# Altium footprint library footprints.PcbLib: 14 footprints (part 1 of 2)
Each footprint in its own frame and in the unit in brackets; x right, y up, seen from the top. Pads: shape width x height; smd on the part's side, far side on the other; paste and mask are expansions set on the pad; w line width, h text height; cw(c..) or ccw(c..) is an arc to the next point about the centre after c.
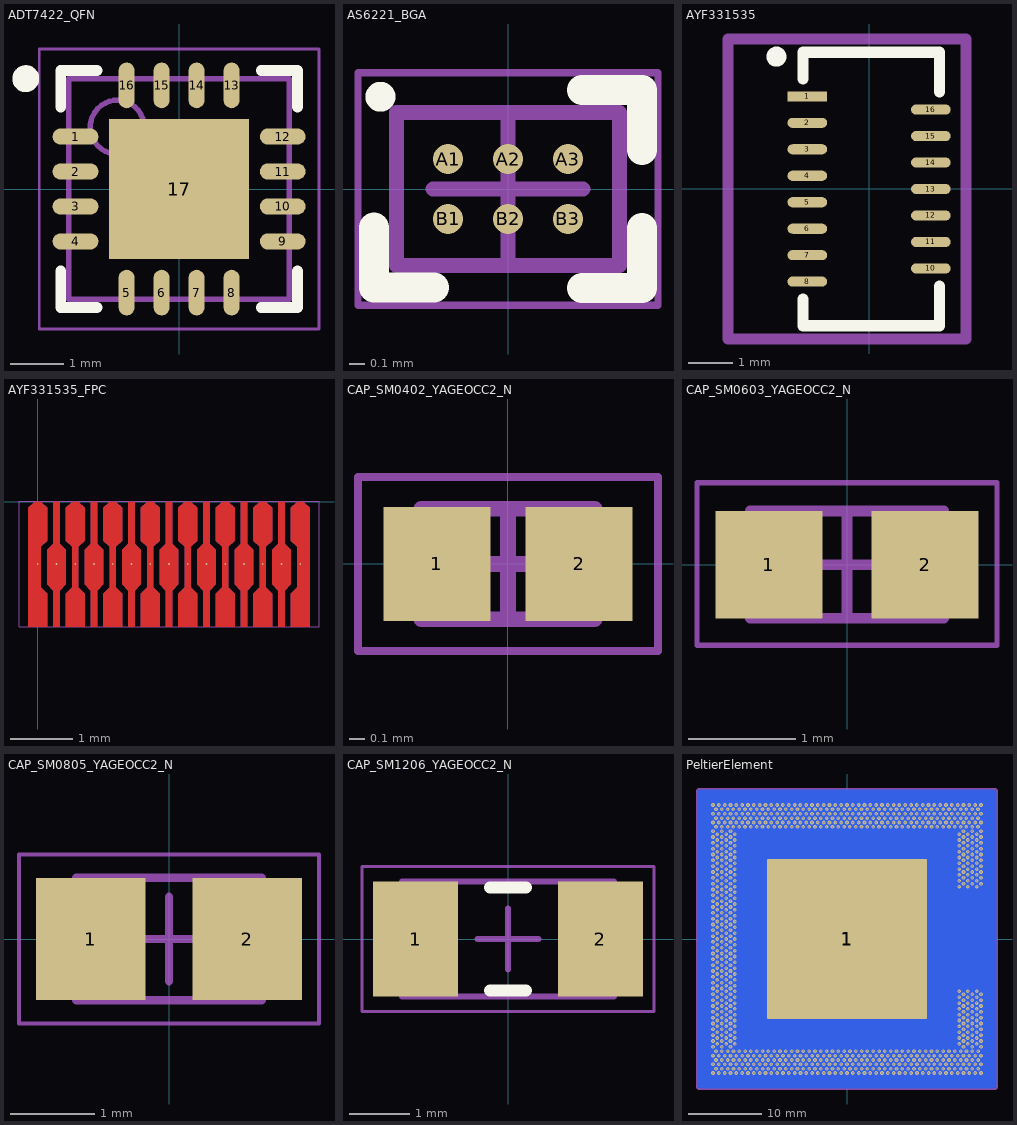
[diagram p0: the footprints below, top view; thin cyan lines are the x and y axes]

## ADT7422_QFN [mm] "QFN, 16-Leads, Body 4,00x4,00mm, Pitch 0,65mm, Thermal Pad 2,60x2,60mm, IPC Medium Density"
height 0.8
pads (17):
  oval 0.85x0.3 smd: 1(-1.925,0.975) 2(-1.925,0.325) 3(-1.925,-0.325) 4(-1.925,-0.975) 9(1.925,-0.975) 10(1.925,-0.325) 11(1.925,0.325) 12(1.925,0.975)
  oval 0.3x0.85 smd: 5(-0.975,-1.925) 6(-0.325,-1.925) 7(0.325,-1.925) 8(0.975,-1.925) 13(0.975,1.925) 14(0.325,1.925) 15(-0.325,1.925) 16(-0.975,1.925)
  rect 2.6x2.6 smd: 17(0,0)
Top Overlay:
  circle w0.25: c-2.85,2.05 r0.125
  lines w0.2: -2.2,-1.525 -2.2,-2.2 -1.525,-2.2 ; -2.2,1.525 -2.2,2.2 -1.525,2.2 ; 1.525,-2.2 2.2,-2.2 2.2,-1.525 ; 1.525,2.2 2.2,2.2 2.2,1.525
Top Courtyard:
  lines w0.05: -2.6,-2.6 -2.6,2.6 2.6,2.6 2.6,-2.6 -2.6,-2.6
  lines w0.1: -0.5,0 0.5,0 ; 0,-0.5 0,0.5
Mechanical 13:
  circle w0.1: c-1.15,1.15 r0.5
  lines w0.1: -2.05,-2.05 -2.05,2.05 2.05,2.05 2.05,-2.05 -2.05,-2.05
3D body: height 0.8, standoff 0.01, extent -2.05,-2.05 2.05,2.05

## AS6221_BGA [mm] "BGA, 6-Leads, Body 1,02x1,50mmx0,53mm, Pitch 0,40mm"
height 0.53
pads (6):
  round 0.2 smd: A1(-0.4,0.2) A2(0,0.2) A3(0.4,0.2) B1(-0.4,-0.2) B2(0,-0.2) B3(0.4,-0.2)
Top Overlay:
  circle w0.1: c-0.85,0.615 r0.05
  lines w0.2: -0.893,-0.256 -0.893,-0.656 -0.493,-0.656 ; 0.494,-0.66 0.894,-0.66 0.894,-0.26 ; 0.494,0.661 0.894,0.661 0.894,0.261
Top Courtyard:
  lines w0.05: -1,-0.775 -1,0.775 1,0.775 1,-0.775 -1,-0.775
  lines w0.1: -0.5,0 0.5,0 ; 0,-0.5 0,0.5
Mechanical 13:
  lines w0.1: -0.745,-0.51 -0.745,0.51 0.745,0.51 0.745,-0.51 -0.745,-0.51
3D body: height 0.55, standoff 0.18, extent -0.745,-0.51 0.745,0.51

## AYF331535 [mm]
pads (15):
  rect 0.9x0.23 smd: 1(-1.4,2.1)
  oval 0.9x0.23 smd: 2(-1.4,1.5) 3(-1.4,0.9) 4(-1.4,0.3) 5(-1.4,-0.3) 6(-1.4,-0.9) 7(-1.4,-1.5) 8(-1.4,-2.1) 10(1.4,-1.8) 11(1.4,-1.2) 12(1.4,-0.6) 13(1.4,0) 14(1.4,0.6) 15(1.4,1.2) 16(1.4,1.8)
Top Overlay:
  circle w0.254: c-2.1,3 r0.1
  lines w0.254: -1.5,-2.5 -1.5,-3.1 1.6,-3.1 1.6,-2.2 ; -1.5,2.5 -1.5,3.1 1.6,3.1 1.6,2.2
Top Courtyard:
  lines w0.254: -3.2,-3.4 2.2,-3.4 2.2,3.4 -3.2,3.4 -3.2,-3.4
3D body: height 0.9, standoff 0, extent -1.4,-3 1.55,3

## AYF331535_FPC [mil]
pads (15):
  round 1 all layers, no hole paste-99999 mask+3.94: 1(0,-39.37) 2(11.81,-39.37)
  round 1 all layers, no hole paste-99999: 3(23.62,-39.37) 4(35.43,-39.37) 5(47.24,-39.37) 6(59.06,-39.37) 7(70.87,-39.37) 8(82.68,-39.37) 9(94.49,-39.37) 10(106.3,-39.37) 11(118.11,-39.37) 12(129.92,-39.37) 13(141.73,-39.37) 14(153.54,-39.37) 15(165.35,-39.37)
Top Layer:
  region: -5.91,-78.74 -5.91,-3.94 -1.97,0 1.97,0 5.91,-3.94 5.91,-24.61 1.97,-28.54 1.97,-54.13 5.91,-58.07 5.91,-78.74
  region: 5.91,-52.17 5.91,-30.51 9.84,-26.57 9.84,0 13.78,0 13.78,-26.57 17.72,-30.51 17.72,-52.17 13.78,-56.1 13.78,-78.74 9.84,-78.74 9.84,-56.1
  region: 17.72,-78.74 17.72,-58.07 21.65,-54.13 21.65,-28.54 17.72,-24.61 17.72,-3.94 21.65,0 25.59,0 29.53,-3.94 29.53,-24.61 25.59,-28.54 25.59,-54.13 29.53,-58.07 29.53,-78.74
  region: 29.53,-52.17 29.53,-30.51 33.46,-26.57 33.46,0 37.4,0 37.4,-26.57 41.34,-30.51 41.34,-52.17 37.4,-56.1 37.4,-78.74 33.46,-78.74 33.46,-56.1
  region: 41.34,-78.74 41.34,-58.07 45.28,-54.13 45.28,-28.54 41.34,-24.61 41.34,-3.94 45.28,0 49.21,0 53.15,-3.94 53.15,-24.61 49.21,-28.54 49.21,-54.13 53.15,-58.07 53.15,-78.74
  region: 64.96,-78.74 64.96,-58.07 68.9,-54.13 68.9,-28.54 64.96,-24.61 64.96,-3.94 68.9,0 72.83,0 76.77,-3.94 76.77,-24.61 72.83,-28.54 72.83,-54.13 76.77,-58.07 76.77,-78.74
  region: 53.15,-52.17 53.15,-30.51 57.09,-26.57 57.09,0 61.02,0 61.02,-26.57 64.96,-30.51 64.96,-52.17 61.02,-56.1 61.02,-78.74 57.09,-78.74 57.09,-56.1
  region: 76.77,-52.17 76.77,-30.51 80.71,-26.57 80.71,0 84.65,0 84.65,-26.57 88.58,-30.51 88.58,-52.17 84.65,-56.1 84.65,-78.74 80.71,-78.74 80.71,-56.1
  region: 88.58,-78.74 88.58,-58.07 92.52,-54.13 92.52,-28.54 88.58,-24.61 88.58,-3.94 92.52,0 96.46,0 100.39,-3.94 100.39,-24.61 96.46,-28.54 96.46,-54.13 100.39,-58.07 100.39,-78.74
  region: 100.39,-52.17 100.39,-30.51 104.33,-26.57 104.33,0 108.27,0 108.27,-26.57 112.2,-30.51 112.2,-52.17 108.27,-56.1 108.27,-78.74 104.33,-78.74 104.33,-56.1
  region: 112.2,-78.74 112.2,-58.07 116.14,-54.13 116.14,-28.54 112.2,-24.61 112.2,-3.94 116.14,0 120.08,0 124.02,-3.94 124.02,-24.61 120.08,-28.54 120.08,-54.13 124.02,-58.07 124.02,-78.74
  region: 124.02,-52.17 124.02,-30.51 127.95,-26.57 127.95,0 131.89,0 131.89,-26.57 135.83,-30.51 135.83,-52.17 131.89,-56.1 131.89,-78.74 127.95,-78.74 127.95,-56.1
  region: 135.83,-78.74 135.83,-58.07 139.76,-54.13 139.76,-28.54 135.83,-24.61 135.83,-3.94 139.76,0 143.7,0 147.64,-3.94 147.64,-24.61 143.7,-28.54 143.7,-54.13 147.64,-58.07 147.64,-78.74
  region: 147.64,-52.17 147.64,-30.51 151.57,-26.57 151.57,0 155.51,0 155.51,-26.57 159.45,-30.51 159.45,-52.17 155.51,-56.1 155.51,-78.74 151.57,-78.74 151.57,-56.1
  region: 159.45,-78.74 159.45,-58.07 163.39,-54.13 163.39,-28.54 159.45,-24.61 159.45,-3.94 163.39,0 167.32,0 171.26,-3.94 171.26,-78.74
Bottom Layer:
  region: -5.91,-78.74 -5.91,-3.94 -1.97,0 1.97,0 5.91,-3.94 5.91,-24.61 1.97,-28.54 1.97,-54.13 5.91,-58.07 5.91,-78.74
  region: 5.91,-52.17 5.91,-30.51 9.84,-26.57 9.84,0 13.78,0 13.78,-26.57 17.72,-30.51 17.72,-52.17 13.78,-56.1 13.78,-78.74 9.84,-78.74 9.84,-56.1
  region: 17.72,-78.74 17.72,-58.07 21.65,-54.13 21.65,-28.54 17.72,-24.61 17.72,-3.94 21.65,0 25.59,0 29.53,-3.94 29.53,-24.61 25.59,-28.54 25.59,-54.13 29.53,-58.07 29.53,-78.74
  region: 29.53,-52.17 29.53,-30.51 33.46,-26.57 33.46,0 37.4,0 37.4,-26.57 41.34,-30.51 41.34,-52.17 37.4,-56.1 37.4,-78.74 33.46,-78.74 33.46,-56.1
  region: 41.34,-78.74 41.34,-58.07 45.28,-54.13 45.28,-28.54 41.34,-24.61 41.34,-3.94 45.28,0 49.21,0 53.15,-3.94 53.15,-24.61 49.21,-28.54 49.21,-54.13 53.15,-58.07 53.15,-78.74
  region: 64.96,-78.74 64.96,-58.07 68.9,-54.13 68.9,-28.54 64.96,-24.61 64.96,-3.94 68.9,0 72.83,0 76.77,-3.94 76.77,-24.61 72.83,-28.54 72.83,-54.13 76.77,-58.07 76.77,-78.74
  region: 53.15,-52.17 53.15,-30.51 57.09,-26.57 57.09,0 61.02,0 61.02,-26.57 64.96,-30.51 64.96,-52.17 61.02,-56.1 61.02,-78.74 57.09,-78.74 57.09,-56.1
  region: 76.77,-52.17 76.77,-30.51 80.71,-26.57 80.71,0 84.65,0 84.65,-26.57 88.58,-30.51 88.58,-52.17 84.65,-56.1 84.65,-78.74 80.71,-78.74 80.71,-56.1
  region: 88.58,-78.74 88.58,-58.07 92.52,-54.13 92.52,-28.54 88.58,-24.61 88.58,-3.94 92.52,0 96.46,0 100.39,-3.94 100.39,-24.61 96.46,-28.54 96.46,-54.13 100.39,-58.07 100.39,-78.74
  region: 100.39,-52.17 100.39,-30.51 104.33,-26.57 104.33,0 108.27,0 108.27,-26.57 112.2,-30.51 112.2,-52.17 108.27,-56.1 108.27,-78.74 104.33,-78.74 104.33,-56.1
  region: 112.2,-78.74 112.2,-58.07 116.14,-54.13 116.14,-28.54 112.2,-24.61 112.2,-3.94 116.14,0 120.08,0 124.02,-3.94 124.02,-24.61 120.08,-28.54 120.08,-54.13 124.02,-58.07 124.02,-78.74
  region: 124.02,-52.17 124.02,-30.51 127.95,-26.57 127.95,0 131.89,0 131.89,-26.57 135.83,-30.51 135.83,-52.17 131.89,-56.1 131.89,-78.74 127.95,-78.74 127.95,-56.1
  region: 135.83,-78.74 135.83,-58.07 139.76,-54.13 139.76,-28.54 135.83,-24.61 135.83,-3.94 139.76,0 143.7,0 147.64,-3.94 147.64,-24.61 143.7,-28.54 143.7,-54.13 147.64,-58.07 147.64,-78.74
  region: 147.64,-52.17 147.64,-30.51 151.57,-26.57 151.57,0 155.51,0 155.51,-26.57 159.45,-30.51 159.45,-52.17 155.51,-56.1 155.51,-78.74 151.57,-78.74 151.57,-56.1
  region: 159.45,-78.74 159.45,-58.07 163.39,-54.13 163.39,-28.54 159.45,-24.61 159.45,-3.94 163.39,0 167.32,0 171.26,-3.94 171.26,-78.74
Mechanical 1:
  lines w0.39: -11.81,-78.74 177.17,-78.74 177.17,0 -11.81,0 -11.81,-78.74

## CAP_SM0402_YAGEOCC2_N [mm] "Capacitor, Yageo CC Class2, SM0402, IPC Medium Density"
height 0.9
pads (2):
  rect 0.68x0.72 smd: 1(-0.45,0) 2(0.45,0)
Mechanical 13:
  lines w0.1: -0.55,-0.35 0.55,-0.35 0.55,0.35 -0.55,0.35 -0.55,-0.35
Mechanical 15:
  lines w0.05: -0.95,-0.55 0.95,-0.55 0.95,0.55 -0.95,0.55 -0.95,-0.55
  lines w0.1: -0.35,0 0.35,0 ; 0,-0.35 0,0.35
3D body: height 0.6, standoff 0, extent 0.3,-0.35 0.55,0.35
3D body: height 0.6, standoff 0, extent -0.55,-0.35 -0.3,0.35
3D body: height 0.6, standoff 0, extent -0.3,-0.35 0.3,0.35

## CAP_SM0603_YAGEOCC2_N [mm] "Capacitor, Yageo CC Class2, SM0603, IPC Medium Density"
height 0.9
pads (2):
  rect 1x1 smd: 1(-0.727,0) 2(0.727,0)
Mechanical 13:
  lines w0.1: -0.9,-0.5 0.9,-0.5 0.9,0.5 -0.9,0.5 -0.9,-0.5
Mechanical 15:
  lines w0.05: -1.397,-0.75 1.397,-0.75 1.397,0.762 -1.397,0.762 -1.397,-0.75
  lines w0.1: -0.5,0 0.5,0 ; 0,-0.5 0,0.5
3D body: height 0.9, standoff 0, extent 0.5,-0.5 0.9,0.5
3D body: height 0.9, standoff 0, extent -0.9,-0.5 -0.5,0.5
3D body: height 0.9, standoff 0, extent -0.5,-0.5 0.5,0.5

## CAP_SM0805_YAGEOCC2_N [mm] "Capacitor, Yageo CC Class2, SM0805, IPC Medium Density"
height 1.45
pads (2):
  rect 1.3x1.45 smd: 1(-0.927,0) 2(0.927,0)
Mechanical 13:
  lines w0.1: -1.1,-0.725 -1.1,0.725 1.1,0.725 1.1,-0.725 -1.1,-0.725
Mechanical 15:
  lines w0.05: -1.778,-1 -1.778,1 1.778,1 1.778,-1 -1.778,-1
  lines w0.1: -0.5,0 0.5,0 ; 0,-0.5 0,0.5
3D body: height 1.45, standoff 0, extent -0.6,-0.725 0.6,0.725
3D body: height 1.45, standoff 0, extent -1.1,-0.725 -0.6,0.725
3D body: height 1.45, standoff 0, extent 0.6,-0.725 1.1,0.725

## CAP_SM1206_YAGEOCC2_N [mm] "Capacitor, Yageo CC Class2, SM1206, IPC Medium Density"
height 1.8
pads (2):
  rect 1.4x1.9 smd: 1(-1.527,0) 2(1.527,0)
Top Overlay:
  lines w0.2: -0.3,-0.85 0.3,-0.85 ; -0.3,0.85 0.3,0.85
Mechanical 13:
  lines w0.1: -1.75,-0.95 -1.75,0.95 1.75,0.95 1.75,-0.95 -1.75,-0.95
Mechanical 15:
  lines w0.05: -2.413,-1.2 -2.413,1.2 2.413,1.2 2.413,-1.2 -2.413,-1.2
  lines w0.1: -0.5,0 0.5,0 ; 0,-0.5 0,0.5
3D body: height 1.8, standoff 0, extent -1.25,-0.95 1.25,0.95
3D body: height 1.8, standoff 0, extent -1.75,-0.95 -1.25,0.95
3D body: height 1.8, standoff 0, extent 1.25,-0.95 1.75,0.95

## PeltierElement [mm]
pads (2):
  rrect2% 22x22 smd paste-2539.97: 1(0,0)
  rrect2% 41x41 smd far side paste-2539.97: 1(0,0)
via 18.4,14.8 diameter 0.5 hole 0.3
via 18.4,14 diameter 0.5 hole 0.3
via 17.8,14.4 diameter 0.5 hole 0.3
via 18.4,13.2 diameter 0.5 hole 0.3
via 17.8,13.6 diameter 0.5 hole 0.3
via 17.8,12.8 diameter 0.5 hole 0.3
via 18.4,12.4 diameter 0.5 hole 0.3
via 18.4,11.6 diameter 0.5 hole 0.3
via 17.8,12 diameter 0.5 hole 0.3
via 18.4,10.8 diameter 0.5 hole 0.3
via 17.8,11.2 diameter 0.5 hole 0.3
via 17.8,10.4 diameter 0.5 hole 0.3
via 18.4,10 diameter 0.5 hole 0.3
via 18.4,9.2 diameter 0.5 hole 0.3
via 17.8,9.6 diameter 0.5 hole 0.3
via 18.4,8.4 diameter 0.5 hole 0.3
via 17.8,8.8 diameter 0.5 hole 0.3
via 17.8,8 diameter 0.5 hole 0.3
via 18.4,7.6 diameter 0.5 hole 0.3
via 17.8,7.2 diameter 0.5 hole 0.3
via 18.4,-7.6 diameter 0.5 hole 0.3
via 17.8,-7.2 diameter 0.5 hole 0.3
via 18.4,-8.4 diameter 0.5 hole 0.3
via 17.8,-8 diameter 0.5 hole 0.3
via 17.8,-8.8 diameter 0.5 hole 0.3
via 18.4,-9.2 diameter 0.5 hole 0.3
via 18.4,-10 diameter 0.5 hole 0.3
via 17.8,-9.6 diameter 0.5 hole 0.3
via 18.4,-10.8 diameter 0.5 hole 0.3
via 17.8,-10.4 diameter 0.5 hole 0.3
via 17.8,-11.2 diameter 0.5 hole 0.3
via 18.4,-11.6 diameter 0.5 hole 0.3
via 18.4,-12.4 diameter 0.5 hole 0.3
via 17.8,-12 diameter 0.5 hole 0.3
via 18.4,-13.2 diameter 0.5 hole 0.3
via 17.8,-12.8 diameter 0.5 hole 0.3
via 17.8,-13.6 diameter 0.5 hole 0.3
via 18.4,-14 diameter 0.5 hole 0.3
via 18.4,-14.8 diameter 0.5 hole 0.3
via 17.8,-14.4 diameter 0.5 hole 0.3
via 17.2,14.8 diameter 0.5 hole 0.3
via 17.2,14 diameter 0.5 hole 0.3
via 16.6,14.4 diameter 0.5 hole 0.3
via 17.2,13.2 diameter 0.5 hole 0.3
via 16.6,13.6 diameter 0.5 hole 0.3
via 16.6,12.8 diameter 0.5 hole 0.3
via 17.2,12.4 diameter 0.5 hole 0.3
via 17.2,11.6 diameter 0.5 hole 0.3
via 16.6,12 diameter 0.5 hole 0.3
via 17.2,10.8 diameter 0.5 hole 0.3
via 16.6,11.2 diameter 0.5 hole 0.3
via 16.6,10.4 diameter 0.5 hole 0.3
via 17.2,10 diameter 0.5 hole 0.3
via 17.2,9.2 diameter 0.5 hole 0.3
via 16.6,9.6 diameter 0.5 hole 0.3
via 17.2,8.4 diameter 0.5 hole 0.3
via 16.6,8.8 diameter 0.5 hole 0.3
via 16.6,8 diameter 0.5 hole 0.3
via 17.2,7.6 diameter 0.5 hole 0.3
via 16.6,7.2 diameter 0.5 hole 0.3
via 17.2,-7.6 diameter 0.5 hole 0.3
via 16.6,-7.2 diameter 0.5 hole 0.3
via 17.2,-8.4 diameter 0.5 hole 0.3
via 16.6,-8 diameter 0.5 hole 0.3
via 16.6,-8.8 diameter 0.5 hole 0.3
via 17.2,-9.2 diameter 0.5 hole 0.3
via 17.2,-10 diameter 0.5 hole 0.3
via 16.6,-9.6 diameter 0.5 hole 0.3
via 17.2,-10.8 diameter 0.5 hole 0.3
via 16.6,-10.4 diameter 0.5 hole 0.3
via 16.6,-11.2 diameter 0.5 hole 0.3
via 17.2,-11.6 diameter 0.5 hole 0.3
via 17.2,-12.4 diameter 0.5 hole 0.3
via 16.6,-12 diameter 0.5 hole 0.3
via 17.2,-13.2 diameter 0.5 hole 0.3
via 16.6,-12.8 diameter 0.5 hole 0.3
via 16.6,-13.6 diameter 0.5 hole 0.3
via 17.2,-14 diameter 0.5 hole 0.3
via 17.2,-14.8 diameter 0.5 hole 0.3
via 16.6,-14.4 diameter 0.5 hole 0.3
via 16,14.8 diameter 0.5 hole 0.3
via 16,14 diameter 0.5 hole 0.3
via 15.4,14.4 diameter 0.5 hole 0.3
via 16,13.2 diameter 0.5 hole 0.3
via 15.4,13.6 diameter 0.5 hole 0.3
via 15.4,12.8 diameter 0.5 hole 0.3
via 16,12.4 diameter 0.5 hole 0.3
via 16,11.6 diameter 0.5 hole 0.3
via 15.4,12 diameter 0.5 hole 0.3
via 16,10.8 diameter 0.5 hole 0.3
via 15.4,11.2 diameter 0.5 hole 0.3
via 15.4,10.4 diameter 0.5 hole 0.3
via 16,10 diameter 0.5 hole 0.3
via 16,9.2 diameter 0.5 hole 0.3
via 15.4,9.6 diameter 0.5 hole 0.3
via 16,8.4 diameter 0.5 hole 0.3
via 15.4,8.8 diameter 0.5 hole 0.3
via 15.4,8 diameter 0.5 hole 0.3
via 16,7.6 diameter 0.5 hole 0.3
via 15.4,7.2 diameter 0.5 hole 0.3
via 16,-7.6 diameter 0.5 hole 0.3
via 15.4,-7.2 diameter 0.5 hole 0.3
via 16,-8.4 diameter 0.5 hole 0.3
via 15.4,-8 diameter 0.5 hole 0.3
via 15.4,-8.8 diameter 0.5 hole 0.3
via 16,-9.2 diameter 0.5 hole 0.3
via 16,-10 diameter 0.5 hole 0.3
via 15.4,-9.6 diameter 0.5 hole 0.3
via 16,-10.8 diameter 0.5 hole 0.3
via 15.4,-10.4 diameter 0.5 hole 0.3
via 15.4,-11.2 diameter 0.5 hole 0.3
via 16,-11.6 diameter 0.5 hole 0.3
via 16,-12.4 diameter 0.5 hole 0.3
via 15.4,-12 diameter 0.5 hole 0.3
via 16,-13.2 diameter 0.5 hole 0.3
via 15.4,-12.8 diameter 0.5 hole 0.3
via 15.4,-13.6 diameter 0.5 hole 0.3
via 16,-14 diameter 0.5 hole 0.3
via 16,-14.8 diameter 0.5 hole 0.3
via 15.4,-14.4 diameter 0.5 hole 0.3
via -18.4,-14.8 diameter 0.5 hole 0.3
via -18.4,-14 diameter 0.5 hole 0.3
via -17.8,-14.4 diameter 0.5 hole 0.3
via -18.4,-13.2 diameter 0.5 hole 0.3
via -17.8,-13.6 diameter 0.5 hole 0.3
via -17.8,-12.8 diameter 0.5 hole 0.3
via -18.4,-12.4 diameter 0.5 hole 0.3
via -18.4,-11.6 diameter 0.5 hole 0.3
via -17.8,-12 diameter 0.5 hole 0.3
via -18.4,-10.8 diameter 0.5 hole 0.3
via -17.8,-11.2 diameter 0.5 hole 0.3
via -17.8,-10.4 diameter 0.5 hole 0.3
via -18.4,-10 diameter 0.5 hole 0.3
via -18.4,-9.2 diameter 0.5 hole 0.3
via -17.8,-9.6 diameter 0.5 hole 0.3
via -18.4,-8.4 diameter 0.5 hole 0.3
via -17.8,-8.8 diameter 0.5 hole 0.3
via -17.8,-8 diameter 0.5 hole 0.3
via -18.4,-7.6 diameter 0.5 hole 0.3
via -18.4,-6.8 diameter 0.5 hole 0.3
via -17.8,-7.2 diameter 0.5 hole 0.3
via -18.4,-6 diameter 0.5 hole 0.3
via -17.8,-6.4 diameter 0.5 hole 0.3
via -17.8,-5.6 diameter 0.5 hole 0.3
via -18.4,-5.2 diameter 0.5 hole 0.3
via -18.4,-4.4 diameter 0.5 hole 0.3
via -17.8,-4.8 diameter 0.5 hole 0.3
via -18.4,-3.6 diameter 0.5 hole 0.3
via -17.8,-4 diameter 0.5 hole 0.3
via -17.8,-3.2 diameter 0.5 hole 0.3
via -18.4,-2.8 diameter 0.5 hole 0.3
via -18.4,-2 diameter 0.5 hole 0.3
via -17.8,-2.4 diameter 0.5 hole 0.3
via -18.4,-1.2 diameter 0.5 hole 0.3
via -17.8,-1.6 diameter 0.5 hole 0.3
via -17.8,-0.8 diameter 0.5 hole 0.3
via -18.4,-0.4 diameter 0.5 hole 0.3
via -18.4,0.4 diameter 0.5 hole 0.3
via -17.8,0 diameter 0.5 hole 0.3
via -18.4,1.2 diameter 0.5 hole 0.3
via -17.8,0.8 diameter 0.5 hole 0.3
via -17.8,1.6 diameter 0.5 hole 0.3
via -18.4,2 diameter 0.5 hole 0.3
via -18.4,2.8 diameter 0.5 hole 0.3
via -17.8,2.4 diameter 0.5 hole 0.3
via -18.4,3.6 diameter 0.5 hole 0.3
via -17.8,3.2 diameter 0.5 hole 0.3
via -17.8,4 diameter 0.5 hole 0.3
via -18.4,4.4 diameter 0.5 hole 0.3
via -18.4,5.2 diameter 0.5 hole 0.3
via -17.8,4.8 diameter 0.5 hole 0.3
via -18.4,6 diameter 0.5 hole 0.3
via -17.8,5.6 diameter 0.5 hole 0.3
via -17.8,6.4 diameter 0.5 hole 0.3
via -18.4,6.8 diameter 0.5 hole 0.3
via -18.4,7.6 diameter 0.5 hole 0.3
via -17.8,7.2 diameter 0.5 hole 0.3
via -18.4,8.4 diameter 0.5 hole 0.3
via -17.8,8 diameter 0.5 hole 0.3
via -17.8,8.8 diameter 0.5 hole 0.3
via -18.4,9.2 diameter 0.5 hole 0.3
via -18.4,10 diameter 0.5 hole 0.3
via -17.8,9.6 diameter 0.5 hole 0.3
via -18.4,10.8 diameter 0.5 hole 0.3
via -17.8,10.4 diameter 0.5 hole 0.3
via -17.8,11.2 diameter 0.5 hole 0.3
via -18.4,11.6 diameter 0.5 hole 0.3
via -18.4,12.4 diameter 0.5 hole 0.3
via -17.8,12 diameter 0.5 hole 0.3
via -18.4,13.2 diameter 0.5 hole 0.3
via -17.8,12.8 diameter 0.5 hole 0.3
via -17.8,13.6 diameter 0.5 hole 0.3
via -18.4,14 diameter 0.5 hole 0.3
via -18.4,14.8 diameter 0.5 hole 0.3
via -17.8,14.4 diameter 0.5 hole 0.3
via -17.2,-14.8 diameter 0.5 hole 0.3
via -17.2,-14 diameter 0.5 hole 0.3
via -16.6,-14.4 diameter 0.5 hole 0.3
via -17.2,-13.2 diameter 0.5 hole 0.3
via -16.6,-13.6 diameter 0.5 hole 0.3
via -16.6,-12.8 diameter 0.5 hole 0.3
via -17.2,-12.4 diameter 0.5 hole 0.3
via -17.2,-11.6 diameter 0.5 hole 0.3
via -16.6,-12 diameter 0.5 hole 0.3
via -17.2,-10.8 diameter 0.5 hole 0.3
via -16.6,-11.2 diameter 0.5 hole 0.3
via -16.6,-10.4 diameter 0.5 hole 0.3
via -17.2,-10 diameter 0.5 hole 0.3
via -17.2,-9.2 diameter 0.5 hole 0.3
via -16.6,-9.6 diameter 0.5 hole 0.3
via -17.2,-8.4 diameter 0.5 hole 0.3
via -16.6,-8.8 diameter 0.5 hole 0.3
via -16.6,-8 diameter 0.5 hole 0.3
via -17.2,-7.6 diameter 0.5 hole 0.3
via -17.2,-6.8 diameter 0.5 hole 0.3
via -16.6,-7.2 diameter 0.5 hole 0.3
via -17.2,-6 diameter 0.5 hole 0.3
via -16.6,-6.4 diameter 0.5 hole 0.3
via -16.6,-5.6 diameter 0.5 hole 0.3
via -17.2,-5.2 diameter 0.5 hole 0.3
via -17.2,-4.4 diameter 0.5 hole 0.3
via -16.6,-4.8 diameter 0.5 hole 0.3
via -17.2,-3.6 diameter 0.5 hole 0.3
via -16.6,-4 diameter 0.5 hole 0.3
via -16.6,-3.2 diameter 0.5 hole 0.3
via -17.2,-2.8 diameter 0.5 hole 0.3
via -17.2,-2 diameter 0.5 hole 0.3
via -16.6,-2.4 diameter 0.5 hole 0.3
via -17.2,-1.2 diameter 0.5 hole 0.3
via -16.6,-1.6 diameter 0.5 hole 0.3
via -16.6,-0.8 diameter 0.5 hole 0.3
via -17.2,-0.4 diameter 0.5 hole 0.3
via -17.2,0.4 diameter 0.5 hole 0.3
via -16.6,0 diameter 0.5 hole 0.3
via -17.2,1.2 diameter 0.5 hole 0.3
via -16.6,0.8 diameter 0.5 hole 0.3
via -16.6,1.6 diameter 0.5 hole 0.3
via -17.2,2 diameter 0.5 hole 0.3
via -17.2,2.8 diameter 0.5 hole 0.3
via -16.6,2.4 diameter 0.5 hole 0.3
via -17.2,3.6 diameter 0.5 hole 0.3
via -16.6,3.2 diameter 0.5 hole 0.3
via -16.6,4 diameter 0.5 hole 0.3
via -17.2,4.4 diameter 0.5 hole 0.3
via -17.2,5.2 diameter 0.5 hole 0.3
via -16.6,4.8 diameter 0.5 hole 0.3
via -17.2,6 diameter 0.5 hole 0.3
via -16.6,5.6 diameter 0.5 hole 0.3
via -16.6,6.4 diameter 0.5 hole 0.3
via -17.2,6.8 diameter 0.5 hole 0.3
via -17.2,7.6 diameter 0.5 hole 0.3
via -16.6,7.2 diameter 0.5 hole 0.3
via -17.2,8.4 diameter 0.5 hole 0.3
via -16.6,8 diameter 0.5 hole 0.3
via -16.6,8.8 diameter 0.5 hole 0.3
via -17.2,9.2 diameter 0.5 hole 0.3
via -17.2,10 diameter 0.5 hole 0.3
via -16.6,9.6 diameter 0.5 hole 0.3
via -17.2,10.8 diameter 0.5 hole 0.3
via -16.6,10.4 diameter 0.5 hole 0.3
via -16.6,11.2 diameter 0.5 hole 0.3
via -17.2,11.6 diameter 0.5 hole 0.3
via -17.2,12.4 diameter 0.5 hole 0.3
via -16.6,12 diameter 0.5 hole 0.3
via -17.2,13.2 diameter 0.5 hole 0.3
via -16.6,12.8 diameter 0.5 hole 0.3
via -16.6,13.6 diameter 0.5 hole 0.3
via -17.2,14 diameter 0.5 hole 0.3
via -17.2,14.8 diameter 0.5 hole 0.3
via -16.6,14.4 diameter 0.5 hole 0.3
via -16,-14.8 diameter 0.5 hole 0.3
via -16,-14 diameter 0.5 hole 0.3
via -15.4,-14.4 diameter 0.5 hole 0.3
via -16,-13.2 diameter 0.5 hole 0.3
via -15.4,-13.6 diameter 0.5 hole 0.3
via -15.4,-12.8 diameter 0.5 hole 0.3
via -16,-12.4 diameter 0.5 hole 0.3
via -16,-11.6 diameter 0.5 hole 0.3
via -15.4,-12 diameter 0.5 hole 0.3
via -16,-10.8 diameter 0.5 hole 0.3
via -15.4,-11.2 diameter 0.5 hole 0.3
via -15.4,-10.4 diameter 0.5 hole 0.3
via -16,-10 diameter 0.5 hole 0.3
via -16,-9.2 diameter 0.5 hole 0.3
via -15.4,-9.6 diameter 0.5 hole 0.3
via -16,-8.4 diameter 0.5 hole 0.3
via -15.4,-8.8 diameter 0.5 hole 0.3
via -15.4,-8 diameter 0.5 hole 0.3
via -16,-7.6 diameter 0.5 hole 0.3
via -16,-6.8 diameter 0.5 hole 0.3
via -15.4,-7.2 diameter 0.5 hole 0.3
via -16,-6 diameter 0.5 hole 0.3
via -15.4,-6.4 diameter 0.5 hole 0.3
via -15.4,-5.6 diameter 0.5 hole 0.3
via -16,-5.2 diameter 0.5 hole 0.3
via -16,-4.4 diameter 0.5 hole 0.3
via -15.4,-4.8 diameter 0.5 hole 0.3
via -16,-3.6 diameter 0.5 hole 0.3
via -15.4,-4 diameter 0.5 hole 0.3
via -15.4,-3.2 diameter 0.5 hole 0.3
via -16,-2.8 diameter 0.5 hole 0.3
via -16,-2 diameter 0.5 hole 0.3
via -15.4,-2.4 diameter 0.5 hole 0.3
via -16,-1.2 diameter 0.5 hole 0.3
via -15.4,-1.6 diameter 0.5 hole 0.3
via -15.4,-0.8 diameter 0.5 hole 0.3
via -16,-0.4 diameter 0.5 hole 0.3
via -16,0.4 diameter 0.5 hole 0.3
via -15.4,0 diameter 0.5 hole 0.3
via -16,1.2 diameter 0.5 hole 0.3
via -15.4,0.8 diameter 0.5 hole 0.3
via -15.4,1.6 diameter 0.5 hole 0.3
via -16,2 diameter 0.5 hole 0.3
via -16,2.8 diameter 0.5 hole 0.3
via -15.4,2.4 diameter 0.5 hole 0.3
via -16,3.6 diameter 0.5 hole 0.3
via -15.4,3.2 diameter 0.5 hole 0.3
via -15.4,4 diameter 0.5 hole 0.3
via -16,4.4 diameter 0.5 hole 0.3
via -16,5.2 diameter 0.5 hole 0.3
via -15.4,4.8 diameter 0.5 hole 0.3
via -16,6 diameter 0.5 hole 0.3
via -15.4,5.6 diameter 0.5 hole 0.3
via -15.4,6.4 diameter 0.5 hole 0.3
via -16,6.8 diameter 0.5 hole 0.3
via -16,7.6 diameter 0.5 hole 0.3
via -15.4,7.2 diameter 0.5 hole 0.3
via -16,8.4 diameter 0.5 hole 0.3
via -15.4,8 diameter 0.5 hole 0.3
via -15.4,8.8 diameter 0.5 hole 0.3
via -16,9.2 diameter 0.5 hole 0.3
via -16,10 diameter 0.5 hole 0.3
via -15.4,9.6 diameter 0.5 hole 0.3
via -16,10.8 diameter 0.5 hole 0.3
via -15.4,10.4 diameter 0.5 hole 0.3
via -15.4,11.2 diameter 0.5 hole 0.3
via -16,11.6 diameter 0.5 hole 0.3
via -16,12.4 diameter 0.5 hole 0.3
via -15.4,12 diameter 0.5 hole 0.3
via -16,13.2 diameter 0.5 hole 0.3
via -15.4,12.8 diameter 0.5 hole 0.3
via -15.4,13.6 diameter 0.5 hole 0.3
via -16,14 diameter 0.5 hole 0.3
via -16,14.8 diameter 0.5 hole 0.3
via -15.4,14.4 diameter 0.5 hole 0.3
via -17.994,-15.412 diameter 0.5 hole 0.3
via -18.394,-16.012 diameter 0.5 hole 0.3
via -17.594,-16.012 diameter 0.5 hole 0.3
via -17.194,-15.412 diameter 0.5 hole 0.3
via -16.394,-15.412 diameter 0.5 hole 0.3
via -16.794,-16.012 diameter 0.5 hole 0.3
via -15.594,-15.412 diameter 0.5 hole 0.3
via -15.994,-16.012 diameter 0.5 hole 0.3
via -15.194,-16.012 diameter 0.5 hole 0.3
via -14.794,-15.412 diameter 0.5 hole 0.3
via -13.994,-15.412 diameter 0.5 hole 0.3
via -14.394,-16.012 diameter 0.5 hole 0.3
via -13.194,-15.412 diameter 0.5 hole 0.3
via -13.594,-16.012 diameter 0.5 hole 0.3
via -12.794,-16.012 diameter 0.5 hole 0.3
via -12.394,-15.412 diameter 0.5 hole 0.3
via -11.594,-15.412 diameter 0.5 hole 0.3
via -11.994,-16.012 diameter 0.5 hole 0.3
via -10.794,-15.412 diameter 0.5 hole 0.3
via -11.194,-16.012 diameter 0.5 hole 0.3
via -10.394,-16.012 diameter 0.5 hole 0.3
via -9.994,-15.412 diameter 0.5 hole 0.3
via -9.194,-15.412 diameter 0.5 hole 0.3
via -9.594,-16.012 diameter 0.5 hole 0.3
via -8.394,-15.412 diameter 0.5 hole 0.3
via -8.794,-16.012 diameter 0.5 hole 0.3
via -7.994,-16.012 diameter 0.5 hole 0.3
via -7.594,-15.412 diameter 0.5 hole 0.3
via -6.794,-15.412 diameter 0.5 hole 0.3
via -7.194,-16.012 diameter 0.5 hole 0.3
via -5.994,-15.412 diameter 0.5 hole 0.3
via -6.394,-16.012 diameter 0.5 hole 0.3
via -5.594,-16.012 diameter 0.5 hole 0.3
via -5.194,-15.412 diameter 0.5 hole 0.3
via -4.394,-15.412 diameter 0.5 hole 0.3
via -4.794,-16.012 diameter 0.5 hole 0.3
via -3.594,-15.412 diameter 0.5 hole 0.3
via -3.994,-16.012 diameter 0.5 hole 0.3
via -3.194,-16.012 diameter 0.5 hole 0.3
via -2.794,-15.412 diameter 0.5 hole 0.3
via -1.994,-15.412 diameter 0.5 hole 0.3
via -2.394,-16.012 diameter 0.5 hole 0.3
via -1.194,-15.412 diameter 0.5 hole 0.3
via -1.594,-16.012 diameter 0.5 hole 0.3
via -0.794,-16.012 diameter 0.5 hole 0.3
via -0.394,-15.412 diameter 0.5 hole 0.3
via 0.406,-15.412 diameter 0.5 hole 0.3
via 0.006,-16.012 diameter 0.5 hole 0.3
via 1.206,-15.412 diameter 0.5 hole 0.3
via 0.806,-16.012 diameter 0.5 hole 0.3
via 1.606,-16.012 diameter 0.5 hole 0.3
via 2.006,-15.412 diameter 0.5 hole 0.3
via 2.806,-15.412 diameter 0.5 hole 0.3
via 2.406,-16.012 diameter 0.5 hole 0.3
via 3.606,-15.412 diameter 0.5 hole 0.3
via 3.206,-16.012 diameter 0.5 hole 0.3
via 4.006,-16.012 diameter 0.5 hole 0.3
via 4.406,-15.412 diameter 0.5 hole 0.3
via 5.206,-15.412 diameter 0.5 hole 0.3
via 4.806,-16.012 diameter 0.5 hole 0.3
via 6.006,-15.412 diameter 0.5 hole 0.3
via 5.606,-16.012 diameter 0.5 hole 0.3
via 6.406,-16.012 diameter 0.5 hole 0.3
via 6.806,-15.412 diameter 0.5 hole 0.3
via 7.606,-15.412 diameter 0.5 hole 0.3
via 7.206,-16.012 diameter 0.5 hole 0.3
via 8.406,-15.412 diameter 0.5 hole 0.3
via 8.006,-16.012 diameter 0.5 hole 0.3
via 8.806,-16.012 diameter 0.5 hole 0.3
via 9.206,-15.412 diameter 0.5 hole 0.3
via 10.006,-15.412 diameter 0.5 hole 0.3
via 9.606,-16.012 diameter 0.5 hole 0.3
via 10.806,-15.412 diameter 0.5 hole 0.3
via 10.406,-16.012 diameter 0.5 hole 0.3
via 11.206,-16.012 diameter 0.5 hole 0.3
via 11.606,-15.412 diameter 0.5 hole 0.3
via 12.406,-15.412 diameter 0.5 hole 0.3
via 12.006,-16.012 diameter 0.5 hole 0.3
via 13.206,-15.412 diameter 0.5 hole 0.3
via 12.806,-16.012 diameter 0.5 hole 0.3
via 13.606,-16.012 diameter 0.5 hole 0.3
via 14.006,-15.412 diameter 0.5 hole 0.3
via 14.806,-15.412 diameter 0.5 hole 0.3
via 14.406,-16.012 diameter 0.5 hole 0.3
via 15.606,-15.412 diameter 0.5 hole 0.3
via 15.206,-16.012 diameter 0.5 hole 0.3
via 16.006,-16.012 diameter 0.5 hole 0.3
via 16.406,-15.412 diameter 0.5 hole 0.3
via 17.206,-15.412 diameter 0.5 hole 0.3
via 16.806,-16.012 diameter 0.5 hole 0.3
via 18.006,-15.412 diameter 0.5 hole 0.3
via 17.606,-16.012 diameter 0.5 hole 0.3
via 18.406,-16.012 diameter 0.5 hole 0.3
via -17.994,-16.612 diameter 0.5 hole 0.3
via -18.394,-17.212 diameter 0.5 hole 0.3
via -17.594,-17.212 diameter 0.5 hole 0.3
via -17.194,-16.612 diameter 0.5 hole 0.3
via -16.394,-16.612 diameter 0.5 hole 0.3
via -16.794,-17.212 diameter 0.5 hole 0.3
via -15.594,-16.612 diameter 0.5 hole 0.3
via -15.994,-17.212 diameter 0.5 hole 0.3
via -15.194,-17.212 diameter 0.5 hole 0.3
via -14.794,-16.612 diameter 0.5 hole 0.3
via -13.994,-16.612 diameter 0.5 hole 0.3
via -14.394,-17.212 diameter 0.5 hole 0.3
via -13.194,-16.612 diameter 0.5 hole 0.3
via -13.594,-17.212 diameter 0.5 hole 0.3
via -12.794,-17.212 diameter 0.5 hole 0.3
via -12.394,-16.612 diameter 0.5 hole 0.3
via -11.594,-16.612 diameter 0.5 hole 0.3
via -11.994,-17.212 diameter 0.5 hole 0.3
via -10.794,-16.612 diameter 0.5 hole 0.3
via -11.194,-17.212 diameter 0.5 hole 0.3
via -10.394,-17.212 diameter 0.5 hole 0.3
via -9.994,-16.612 diameter 0.5 hole 0.3
via -9.194,-16.612 diameter 0.5 hole 0.3
via -9.594,-17.212 diameter 0.5 hole 0.3
via -8.394,-16.612 diameter 0.5 hole 0.3
via -8.794,-17.212 diameter 0.5 hole 0.3
via -7.994,-17.212 diameter 0.5 hole 0.3
via -7.594,-16.612 diameter 0.5 hole 0.3
via -6.794,-16.612 diameter 0.5 hole 0.3
via -7.194,-17.212 diameter 0.5 hole 0.3
via -5.994,-16.612 diameter 0.5 hole 0.3
via -6.394,-17.212 diameter 0.5 hole 0.3
via -5.594,-17.212 diameter 0.5 hole 0.3
via -5.194,-16.612 diameter 0.5 hole 0.3
via -4.394,-16.612 diameter 0.5 hole 0.3
via -4.794,-17.212 diameter 0.5 hole 0.3
via -3.594,-16.612 diameter 0.5 hole 0.3
via -3.994,-17.212 diameter 0.5 hole 0.3
via -3.194,-17.212 diameter 0.5 hole 0.3
via -2.794,-16.612 diameter 0.5 hole 0.3
via -1.994,-16.612 diameter 0.5 hole 0.3
via -2.394,-17.212 diameter 0.5 hole 0.3
via -1.194,-16.612 diameter 0.5 hole 0.3
via -1.594,-17.212 diameter 0.5 hole 0.3
via -0.794,-17.212 diameter 0.5 hole 0.3
via -0.394,-16.612 diameter 0.5 hole 0.3
via 0.406,-16.612 diameter 0.5 hole 0.3
via 0.006,-17.212 diameter 0.5 hole 0.3
via 1.206,-16.612 diameter 0.5 hole 0.3
via 0.806,-17.212 diameter 0.5 hole 0.3
via 1.606,-17.212 diameter 0.5 hole 0.3
via 2.006,-16.612 diameter 0.5 hole 0.3
via 2.806,-16.612 diameter 0.5 hole 0.3
via 2.406,-17.212 diameter 0.5 hole 0.3
via 3.606,-16.612 diameter 0.5 hole 0.3
via 3.206,-17.212 diameter 0.5 hole 0.3
via 4.006,-17.212 diameter 0.5 hole 0.3
via 4.406,-16.612 diameter 0.5 hole 0.3
via 5.206,-16.612 diameter 0.5 hole 0.3
via 4.806,-17.212 diameter 0.5 hole 0.3
via 6.006,-16.612 diameter 0.5 hole 0.3
via 5.606,-17.212 diameter 0.5 hole 0.3
via 6.406,-17.212 diameter 0.5 hole 0.3
via 6.806,-16.612 diameter 0.5 hole 0.3
via 7.606,-16.612 diameter 0.5 hole 0.3
via 7.206,-17.212 diameter 0.5 hole 0.3
via 8.406,-16.612 diameter 0.5 hole 0.3
via 8.006,-17.212 diameter 0.5 hole 0.3
via 8.806,-17.212 diameter 0.5 hole 0.3
via 9.206,-16.612 diameter 0.5 hole 0.3
via 10.006,-16.612 diameter 0.5 hole 0.3
via 9.606,-17.212 diameter 0.5 hole 0.3
via 10.806,-16.612 diameter 0.5 hole 0.3
via 10.406,-17.212 diameter 0.5 hole 0.3
via 11.206,-17.212 diameter 0.5 hole 0.3
via 11.606,-16.612 diameter 0.5 hole 0.3
via 12.406,-16.612 diameter 0.5 hole 0.3
via 12.006,-17.212 diameter 0.5 hole 0.3
via 13.206,-16.612 diameter 0.5 hole 0.3
via 12.806,-17.212 diameter 0.5 hole 0.3
via 13.606,-17.212 diameter 0.5 hole 0.3
via 14.006,-16.612 diameter 0.5 hole 0.3
via 14.806,-16.612 diameter 0.5 hole 0.3
via 14.406,-17.212 diameter 0.5 hole 0.3
via 15.606,-16.612 diameter 0.5 hole 0.3
via 15.206,-17.212 diameter 0.5 hole 0.3
via 16.006,-17.212 diameter 0.5 hole 0.3
via 16.406,-16.612 diameter 0.5 hole 0.3
via 17.206,-16.612 diameter 0.5 hole 0.3
via 16.806,-17.212 diameter 0.5 hole 0.3
via 18.006,-16.612 diameter 0.5 hole 0.3
via 17.606,-17.212 diameter 0.5 hole 0.3
via 18.406,-17.212 diameter 0.5 hole 0.3
via -17.994,-17.812 diameter 0.5 hole 0.3
via -18.394,-18.412 diameter 0.5 hole 0.3
via -17.594,-18.412 diameter 0.5 hole 0.3
via -17.194,-17.812 diameter 0.5 hole 0.3
via -16.394,-17.812 diameter 0.5 hole 0.3
via -16.794,-18.412 diameter 0.5 hole 0.3
via -15.594,-17.812 diameter 0.5 hole 0.3
via -15.994,-18.412 diameter 0.5 hole 0.3
via -15.194,-18.412 diameter 0.5 hole 0.3
via -14.794,-17.812 diameter 0.5 hole 0.3
via -13.994,-17.812 diameter 0.5 hole 0.3
via -14.394,-18.412 diameter 0.5 hole 0.3
via -13.194,-17.812 diameter 0.5 hole 0.3
via -13.594,-18.412 diameter 0.5 hole 0.3
via -12.794,-18.412 diameter 0.5 hole 0.3
via -12.394,-17.812 diameter 0.5 hole 0.3
via -11.594,-17.812 diameter 0.5 hole 0.3
via -11.994,-18.412 diameter 0.5 hole 0.3
via -10.794,-17.812 diameter 0.5 hole 0.3
via -11.194,-18.412 diameter 0.5 hole 0.3
via -10.394,-18.412 diameter 0.5 hole 0.3
via -9.994,-17.812 diameter 0.5 hole 0.3
via -9.194,-17.812 diameter 0.5 hole 0.3
via -9.594,-18.412 diameter 0.5 hole 0.3
via -8.394,-17.812 diameter 0.5 hole 0.3
via -8.794,-18.412 diameter 0.5 hole 0.3
via -7.994,-18.412 diameter 0.5 hole 0.3
via -7.594,-17.812 diameter 0.5 hole 0.3
via -6.794,-17.812 diameter 0.5 hole 0.3
via -7.194,-18.412 diameter 0.5 hole 0.3
via -5.994,-17.812 diameter 0.5 hole 0.3
via -6.394,-18.412 diameter 0.5 hole 0.3
via -5.594,-18.412 diameter 0.5 hole 0.3
via -5.194,-17.812 diameter 0.5 hole 0.3
via -4.394,-17.812 diameter 0.5 hole 0.3
via -4.794,-18.412 diameter 0.5 hole 0.3
via -3.594,-17.812 diameter 0.5 hole 0.3
via -3.994,-18.412 diameter 0.5 hole 0.3
via -3.194,-18.412 diameter 0.5 hole 0.3
via -2.794,-17.812 diameter 0.5 hole 0.3
via -1.994,-17.812 diameter 0.5 hole 0.3
via -2.394,-18.412 diameter 0.5 hole 0.3
via -1.194,-17.812 diameter 0.5 hole 0.3
via -1.594,-18.412 diameter 0.5 hole 0.3
via -0.794,-18.412 diameter 0.5 hole 0.3
via -0.394,-17.812 diameter 0.5 hole 0.3
via 0.406,-17.812 diameter 0.5 hole 0.3
via 0.006,-18.412 diameter 0.5 hole 0.3
via 1.206,-17.812 diameter 0.5 hole 0.3
via 0.806,-18.412 diameter 0.5 hole 0.3
via 1.606,-18.412 diameter 0.5 hole 0.3
via 2.006,-17.812 diameter 0.5 hole 0.3
via 2.806,-17.812 diameter 0.5 hole 0.3
via 2.406,-18.412 diameter 0.5 hole 0.3
via 3.606,-17.812 diameter 0.5 hole 0.3
via 3.206,-18.412 diameter 0.5 hole 0.3
via 4.006,-18.412 diameter 0.5 hole 0.3
via 4.406,-17.812 diameter 0.5 hole 0.3
via 5.206,-17.812 diameter 0.5 hole 0.3
via 4.806,-18.412 diameter 0.5 hole 0.3
via 6.006,-17.812 diameter 0.5 hole 0.3
via 5.606,-18.412 diameter 0.5 hole 0.3
via 6.406,-18.412 diameter 0.5 hole 0.3
via 6.806,-17.812 diameter 0.5 hole 0.3
via 7.606,-17.812 diameter 0.5 hole 0.3
via 7.206,-18.412 diameter 0.5 hole 0.3
via 8.406,-17.812 diameter 0.5 hole 0.3
via 8.006,-18.412 diameter 0.5 hole 0.3
via 8.806,-18.412 diameter 0.5 hole 0.3
via 9.206,-17.812 diameter 0.5 hole 0.3
via 10.006,-17.812 diameter 0.5 hole 0.3
via 9.606,-18.412 diameter 0.5 hole 0.3
via 10.806,-17.812 diameter 0.5 hole 0.3
via 10.406,-18.412 diameter 0.5 hole 0.3
via 11.206,-18.412 diameter 0.5 hole 0.3
via 11.606,-17.812 diameter 0.5 hole 0.3
via 12.406,-17.812 diameter 0.5 hole 0.3
via 12.006,-18.412 diameter 0.5 hole 0.3
via 13.206,-17.812 diameter 0.5 hole 0.3
via 12.806,-18.412 diameter 0.5 hole 0.3
via 13.606,-18.412 diameter 0.5 hole 0.3
via 14.006,-17.812 diameter 0.5 hole 0.3
via 14.806,-17.812 diameter 0.5 hole 0.3
via 14.406,-18.412 diameter 0.5 hole 0.3
via 15.606,-17.812 diameter 0.5 hole 0.3
via 15.206,-18.412 diameter 0.5 hole 0.3
via 16.006,-18.412 diameter 0.5 hole 0.3
via 16.406,-17.812 diameter 0.5 hole 0.3
via 17.206,-17.812 diameter 0.5 hole 0.3
via 16.806,-18.412 diameter 0.5 hole 0.3
via 18.006,-17.812 diameter 0.5 hole 0.3
via 17.606,-18.412 diameter 0.5 hole 0.3
via 18.406,-18.412 diameter 0.5 hole 0.3
via 18,15.4 diameter 0.5 hole 0.3
via 18.4,16 diameter 0.5 hole 0.3
via 17.6,16 diameter 0.5 hole 0.3
via 17.2,15.4 diameter 0.5 hole 0.3
via 16.4,15.4 diameter 0.5 hole 0.3
via 16.8,16 diameter 0.5 hole 0.3
via 15.6,15.4 diameter 0.5 hole 0.3
via 16,16 diameter 0.5 hole 0.3
via 15.2,16 diameter 0.5 hole 0.3
via 14.8,15.4 diameter 0.5 hole 0.3
via 14,15.4 diameter 0.5 hole 0.3
via 14.4,16 diameter 0.5 hole 0.3
via 13.2,15.4 diameter 0.5 hole 0.3
via 13.6,16 diameter 0.5 hole 0.3
via 12.8,16 diameter 0.5 hole 0.3
via 12.4,15.4 diameter 0.5 hole 0.3
via 11.6,15.4 diameter 0.5 hole 0.3
via 12,16 diameter 0.5 hole 0.3
via 10.8,15.4 diameter 0.5 hole 0.3
via 11.2,16 diameter 0.5 hole 0.3
via 10.4,16 diameter 0.5 hole 0.3
via 10,15.4 diameter 0.5 hole 0.3
via 9.2,15.4 diameter 0.5 hole 0.3
via 9.6,16 diameter 0.5 hole 0.3
via 8.4,15.4 diameter 0.5 hole 0.3
via 8.8,16 diameter 0.5 hole 0.3
via 8,16 diameter 0.5 hole 0.3
via 7.6,15.4 diameter 0.5 hole 0.3
via 6.8,15.4 diameter 0.5 hole 0.3
via 7.2,16 diameter 0.5 hole 0.3
via 6,15.4 diameter 0.5 hole 0.3
via 6.4,16 diameter 0.5 hole 0.3
via 5.6,16 diameter 0.5 hole 0.3
via 5.2,15.4 diameter 0.5 hole 0.3
via 4.4,15.4 diameter 0.5 hole 0.3
via 4.8,16 diameter 0.5 hole 0.3
via 3.6,15.4 diameter 0.5 hole 0.3
via 4,16 diameter 0.5 hole 0.3
via 3.2,16 diameter 0.5 hole 0.3
via 2.8,15.4 diameter 0.5 hole 0.3
via 2,15.4 diameter 0.5 hole 0.3
via 2.4,16 diameter 0.5 hole 0.3
via 1.2,15.4 diameter 0.5 hole 0.3
via 1.6,16 diameter 0.5 hole 0.3
via 0.8,16 diameter 0.5 hole 0.3
via 0.4,15.4 diameter 0.5 hole 0.3
via -0.4,15.4 diameter 0.5 hole 0.3
via 0,16 diameter 0.5 hole 0.3
via -1.2,15.4 diameter 0.5 hole 0.3
via -0.8,16 diameter 0.5 hole 0.3
via -1.6,16 diameter 0.5 hole 0.3
via -2,15.4 diameter 0.5 hole 0.3
via -2.8,15.4 diameter 0.5 hole 0.3
via -2.4,16 diameter 0.5 hole 0.3
via -3.6,15.4 diameter 0.5 hole 0.3
via -3.2,16 diameter 0.5 hole 0.3
via -4,16 diameter 0.5 hole 0.3
via -4.4,15.4 diameter 0.5 hole 0.3
via -5.2,15.4 diameter 0.5 hole 0.3
via -4.8,16 diameter 0.5 hole 0.3
via -6,15.4 diameter 0.5 hole 0.3
via -5.6,16 diameter 0.5 hole 0.3
via -6.4,16 diameter 0.5 hole 0.3
via -6.8,15.4 diameter 0.5 hole 0.3
via -7.6,15.4 diameter 0.5 hole 0.3
via -7.2,16 diameter 0.5 hole 0.3
via -8.4,15.4 diameter 0.5 hole 0.3
via -8,16 diameter 0.5 hole 0.3
via -8.8,16 diameter 0.5 hole 0.3
via -9.2,15.4 diameter 0.5 hole 0.3
via -10,15.4 diameter 0.5 hole 0.3
via -9.6,16 diameter 0.5 hole 0.3
via -10.8,15.4 diameter 0.5 hole 0.3
via -10.4,16 diameter 0.5 hole 0.3
via -11.2,16 diameter 0.5 hole 0.3
via -11.6,15.4 diameter 0.5 hole 0.3
via -12.4,15.4 diameter 0.5 hole 0.3
via -12,16 diameter 0.5 hole 0.3
via -13.2,15.4 diameter 0.5 hole 0.3
via -12.8,16 diameter 0.5 hole 0.3
via -13.6,16 diameter 0.5 hole 0.3
via -14,15.4 diameter 0.5 hole 0.3
via -14.8,15.4 diameter 0.5 hole 0.3
via -14.4,16 diameter 0.5 hole 0.3
via -15.6,15.4 diameter 0.5 hole 0.3
via -15.2,16 diameter 0.5 hole 0.3
via -16,16 diameter 0.5 hole 0.3
via -16.4,15.4 diameter 0.5 hole 0.3
via -17.2,15.4 diameter 0.5 hole 0.3
via -16.8,16 diameter 0.5 hole 0.3
via -18,15.4 diameter 0.5 hole 0.3
via -17.6,16 diameter 0.5 hole 0.3
via -18.4,16 diameter 0.5 hole 0.3
via 18,16.6 diameter 0.5 hole 0.3
via 18.4,17.2 diameter 0.5 hole 0.3
via 17.6,17.2 diameter 0.5 hole 0.3
via 17.2,16.6 diameter 0.5 hole 0.3
via 16.4,16.6 diameter 0.5 hole 0.3
via 16.8,17.2 diameter 0.5 hole 0.3
via 15.6,16.6 diameter 0.5 hole 0.3
via 16,17.2 diameter 0.5 hole 0.3
via 15.2,17.2 diameter 0.5 hole 0.3
via 14.8,16.6 diameter 0.5 hole 0.3
via 14,16.6 diameter 0.5 hole 0.3
via 14.4,17.2 diameter 0.5 hole 0.3
via 13.2,16.6 diameter 0.5 hole 0.3
via 13.6,17.2 diameter 0.5 hole 0.3
via 12.8,17.2 diameter 0.5 hole 0.3
via 12.4,16.6 diameter 0.5 hole 0.3
via 11.6,16.6 diameter 0.5 hole 0.3
via 12,17.2 diameter 0.5 hole 0.3
via 10.8,16.6 diameter 0.5 hole 0.3
via 11.2,17.2 diameter 0.5 hole 0.3
via 10.4,17.2 diameter 0.5 hole 0.3
via 10,16.6 diameter 0.5 hole 0.3
via 9.2,16.6 diameter 0.5 hole 0.3
via 9.6,17.2 diameter 0.5 hole 0.3
via 8.4,16.6 diameter 0.5 hole 0.3
via 8.8,17.2 diameter 0.5 hole 0.3
via 8,17.2 diameter 0.5 hole 0.3
via 7.6,16.6 diameter 0.5 hole 0.3
via 6.8,16.6 diameter 0.5 hole 0.3
via 7.2,17.2 diameter 0.5 hole 0.3
via 6,16.6 diameter 0.5 hole 0.3
via 6.4,17.2 diameter 0.5 hole 0.3
via 5.6,17.2 diameter 0.5 hole 0.3
via 5.2,16.6 diameter 0.5 hole 0.3
via 4.4,16.6 diameter 0.5 hole 0.3
via 4.8,17.2 diameter 0.5 hole 0.3
via 3.6,16.6 diameter 0.5 hole 0.3
via 4,17.2 diameter 0.5 hole 0.3
via 3.2,17.2 diameter 0.5 hole 0.3
via 2.8,16.6 diameter 0.5 hole 0.3
via 2,16.6 diameter 0.5 hole 0.3
via 2.4,17.2 diameter 0.5 hole 0.3
via 1.2,16.6 diameter 0.5 hole 0.3
via 1.6,17.2 diameter 0.5 hole 0.3
via 0.8,17.2 diameter 0.5 hole 0.3
via 0.4,16.6 diameter 0.5 hole 0.3
via -0.4,16.6 diameter 0.5 hole 0.3
via 0,17.2 diameter 0.5 hole 0.3
via -1.2,16.6 diameter 0.5 hole 0.3
via -0.8,17.2 diameter 0.5 hole 0.3
via -1.6,17.2 diameter 0.5 hole 0.3
via -2,16.6 diameter 0.5 hole 0.3
via -2.8,16.6 diameter 0.5 hole 0.3
via -2.4,17.2 diameter 0.5 hole 0.3
via -3.6,16.6 diameter 0.5 hole 0.3
via -3.2,17.2 diameter 0.5 hole 0.3
via -4,17.2 diameter 0.5 hole 0.3
via -4.4,16.6 diameter 0.5 hole 0.3
via -5.2,16.6 diameter 0.5 hole 0.3
via -4.8,17.2 diameter 0.5 hole 0.3
via -6,16.6 diameter 0.5 hole 0.3
via -5.6,17.2 diameter 0.5 hole 0.3
via -6.4,17.2 diameter 0.5 hole 0.3
via -6.8,16.6 diameter 0.5 hole 0.3
via -7.6,16.6 diameter 0.5 hole 0.3
via -7.2,17.2 diameter 0.5 hole 0.3
via -8.4,16.6 diameter 0.5 hole 0.3
via -8,17.2 diameter 0.5 hole 0.3
via -8.8,17.2 diameter 0.5 hole 0.3
via -9.2,16.6 diameter 0.5 hole 0.3
via -10,16.6 diameter 0.5 hole 0.3
via -9.6,17.2 diameter 0.5 hole 0.3
via -10.8,16.6 diameter 0.5 hole 0.3
via -10.4,17.2 diameter 0.5 hole 0.3
via -11.2,17.2 diameter 0.5 hole 0.3
via -11.6,16.6 diameter 0.5 hole 0.3
via -12.4,16.6 diameter 0.5 hole 0.3
via -12,17.2 diameter 0.5 hole 0.3
via -13.2,16.6 diameter 0.5 hole 0.3
via -12.8,17.2 diameter 0.5 hole 0.3
via -13.6,17.2 diameter 0.5 hole 0.3
via -14,16.6 diameter 0.5 hole 0.3
via -14.8,16.6 diameter 0.5 hole 0.3
via -14.4,17.2 diameter 0.5 hole 0.3
via -15.6,16.6 diameter 0.5 hole 0.3
via -15.2,17.2 diameter 0.5 hole 0.3
via -16,17.2 diameter 0.5 hole 0.3
via -16.4,16.6 diameter 0.5 hole 0.3
via -17.2,16.6 diameter 0.5 hole 0.3
via -16.8,17.2 diameter 0.5 hole 0.3
via -18,16.6 diameter 0.5 hole 0.3
via -17.6,17.2 diameter 0.5 hole 0.3
via -18.4,17.2 diameter 0.5 hole 0.3
via 18,17.8 diameter 0.5 hole 0.3
via 18.4,18.4 diameter 0.5 hole 0.3
via 17.6,18.4 diameter 0.5 hole 0.3
via 17.2,17.8 diameter 0.5 hole 0.3
via 16.4,17.8 diameter 0.5 hole 0.3
via 16.8,18.4 diameter 0.5 hole 0.3
via 15.6,17.8 diameter 0.5 hole 0.3
via 16,18.4 diameter 0.5 hole 0.3
via 15.2,18.4 diameter 0.5 hole 0.3
via 14.8,17.8 diameter 0.5 hole 0.3
via 14,17.8 diameter 0.5 hole 0.3
via 14.4,18.4 diameter 0.5 hole 0.3
via 13.2,17.8 diameter 0.5 hole 0.3
via 13.6,18.4 diameter 0.5 hole 0.3
via 12.8,18.4 diameter 0.5 hole 0.3
via 12.4,17.8 diameter 0.5 hole 0.3
via 11.6,17.8 diameter 0.5 hole 0.3
via 12,18.4 diameter 0.5 hole 0.3
via 10.8,17.8 diameter 0.5 hole 0.3
via 11.2,18.4 diameter 0.5 hole 0.3
via 10.4,18.4 diameter 0.5 hole 0.3
via 10,17.8 diameter 0.5 hole 0.3
via 9.2,17.8 diameter 0.5 hole 0.3
via 9.6,18.4 diameter 0.5 hole 0.3
via 8.4,17.8 diameter 0.5 hole 0.3
via 8.8,18.4 diameter 0.5 hole 0.3
via 8,18.4 diameter 0.5 hole 0.3
via 7.6,17.8 diameter 0.5 hole 0.3
via 6.8,17.8 diameter 0.5 hole 0.3
via 7.2,18.4 diameter 0.5 hole 0.3
via 6,17.8 diameter 0.5 hole 0.3
via 6.4,18.4 diameter 0.5 hole 0.3
via 5.6,18.4 diameter 0.5 hole 0.3
via 5.2,17.8 diameter 0.5 hole 0.3
via 4.4,17.8 diameter 0.5 hole 0.3
via 4.8,18.4 diameter 0.5 hole 0.3
via 3.6,17.8 diameter 0.5 hole 0.3
via 4,18.4 diameter 0.5 hole 0.3
via 3.2,18.4 diameter 0.5 hole 0.3
via 2.8,17.8 diameter 0.5 hole 0.3
via 2,17.8 diameter 0.5 hole 0.3
via 2.4,18.4 diameter 0.5 hole 0.3
via 1.2,17.8 diameter 0.5 hole 0.3
via 1.6,18.4 diameter 0.5 hole 0.3
via 0.8,18.4 diameter 0.5 hole 0.3
via 0.4,17.8 diameter 0.5 hole 0.3
via -0.4,17.8 diameter 0.5 hole 0.3
via 0,18.4 diameter 0.5 hole 0.3
via -1.2,17.8 diameter 0.5 hole 0.3
via -0.8,18.4 diameter 0.5 hole 0.3
via -1.6,18.4 diameter 0.5 hole 0.3
via -2,17.8 diameter 0.5 hole 0.3
via -2.8,17.8 diameter 0.5 hole 0.3
via -2.4,18.4 diameter 0.5 hole 0.3
via -3.6,17.8 diameter 0.5 hole 0.3
via -3.2,18.4 diameter 0.5 hole 0.3
via -4,18.4 diameter 0.5 hole 0.3
via -4.4,17.8 diameter 0.5 hole 0.3
via -5.2,17.8 diameter 0.5 hole 0.3
via -4.8,18.4 diameter 0.5 hole 0.3
via -6,17.8 diameter 0.5 hole 0.3
via -5.6,18.4 diameter 0.5 hole 0.3
via -6.4,18.4 diameter 0.5 hole 0.3
via -6.8,17.8 diameter 0.5 hole 0.3
via -7.6,17.8 diameter 0.5 hole 0.3
via -7.2,18.4 diameter 0.5 hole 0.3
via -8.4,17.8 diameter 0.5 hole 0.3
via -8,18.4 diameter 0.5 hole 0.3
via -8.8,18.4 diameter 0.5 hole 0.3
via -9.2,17.8 diameter 0.5 hole 0.3
via -10,17.8 diameter 0.5 hole 0.3
via -9.6,18.4 diameter 0.5 hole 0.3
via -10.8,17.8 diameter 0.5 hole 0.3
via -10.4,18.4 diameter 0.5 hole 0.3
via -11.2,18.4 diameter 0.5 hole 0.3
via -11.6,17.8 diameter 0.5 hole 0.3
via -12.4,17.8 diameter 0.5 hole 0.3
via -12,18.4 diameter 0.5 hole 0.3
via -13.2,17.8 diameter 0.5 hole 0.3
via -12.8,18.4 diameter 0.5 hole 0.3
via -13.6,18.4 diameter 0.5 hole 0.3
via -14,17.8 diameter 0.5 hole 0.3
via -14.8,17.8 diameter 0.5 hole 0.3
via -14.4,18.4 diameter 0.5 hole 0.3
via -15.6,17.8 diameter 0.5 hole 0.3
via -15.2,18.4 diameter 0.5 hole 0.3
via -16,18.4 diameter 0.5 hole 0.3
via -16.4,17.8 diameter 0.5 hole 0.3
via -17.2,17.8 diameter 0.5 hole 0.3
via -16.8,18.4 diameter 0.5 hole 0.3
via -18,17.8 diameter 0.5 hole 0.3
via -17.6,18.4 diameter 0.5 hole 0.3
via -18.4,18.4 diameter 0.5 hole 0.3
Top Layer:
  region: -19,19 -19,-19 19,-19 19,-6 11,-6 11,6 19,6 19,19 -18.4,19 -18.8,19
Top Courtyard:
  lines w0.254: -19,-19 19,-19 19,-6 11,-6 11,6 19,6 19,19 -19,19 -19,-19
Bottom Courtyard:
  lines w0.254: -20.6,-20.346 ccw(c-20.346,-20.346) -20.346,-20.6 20.346,-20.6 ccw(c20.346,-20.346) 20.6,-20.346 20.6,20.346 ccw(c20.346,20.346) 20.346,20.6 -20.346,20.6 ccw(c-20.346,20.346) -20.6,20.346 -20.6,-20.346
3D body: height 0.25, standoff 0, extent -20,20 20,20
3D body: height 4, standoff 0, extent -20,-20 20,20